# EAGLE library part SM5211-SMD (library sonmicro)
SMD Mifare Module
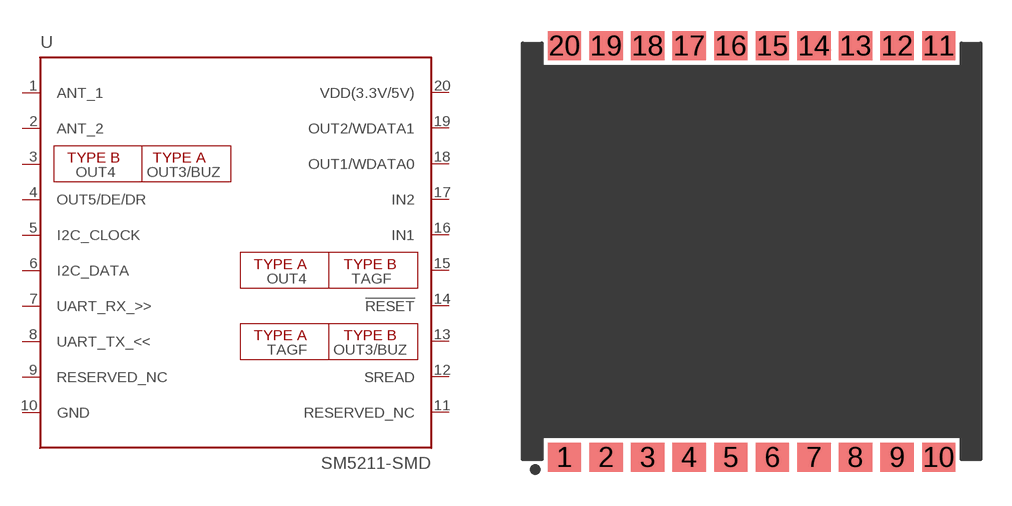
[diagram p1: symbol with the pads of SM5211-SMD-20; footprint SM5211-SMD-20]

Designator prefix -

## SM5211-SMD  [SM5211-SMD-20]
1  ANT_1  pas
2  ANT_2  pas
3  OUT4/OUT3/BUZ  pas
4  OUT5/DE/DR  pas
5  I2C_CLOCK  pas
6  I2C_DATA  pas
7  UART_RX_>>  pas
8  UART_TX_<<  pas
9  RESERVED_NC  pas
10  GND  pas
11  RESERVED_NC  pas
12  SREAD  pas
13  OUT3/BUZ/TAGF  pas
14  !RESET!  pas
15  TAGF/OUT4  pas
16  IN1  pas
17  IN2  pas
18  OUT1/WDATA0  pas
19  OUT2/WDATA1  pas
20  VDD(3.3V/5V)  pas

## Footprint SM5211-SMD-20 (pad centres in mm)
SMD20 package. 20 pin 2.0 mm pin pitch SMD pads.
smd 1.6 x 1.4: 1 -9,-10; 2 -7,-10; 3 -5,-10; 4 -3,-10; 5 -1,-10; 6 1,-10; 7 3,-10; 8 5,-10; 9 7,-10; 10 9,-10; 11 9,9.8; 12 7,9.8; 13 5,9.8; 14 3,9.8; 15 1,9.8; 16 -1,9.8; 17 -3,9.8; 18 -5,9.8; 19 -7,9.8; 20 -9,9.8